# Altium footprint library DIOM5336X265N.PcbLib: 1 footprints
Each footprint in its own frame and in the unit in brackets; x right, y up, seen from the top. Pads: shape width x height; smd on the part's side, far side on the other; paste and mask are expansions set on the pad; w line width, h text height; cw(c..) or ccw(c..) is an arc to the next point about the centre after c.
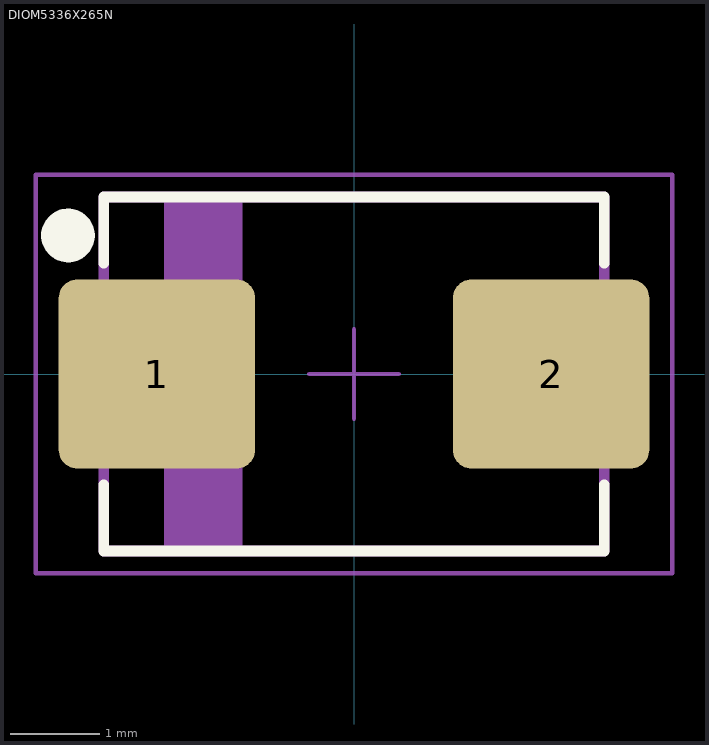
[diagram p0: the footprint, top view; thin cyan lines are the x and y axes]

## DIOM5336X265N [mm]
height 2.65
pads (2):
  rrect20% 2.2x2.12 smd: 1(-2.205,0) 2(2.205,0)
Top Overlay:
  circle w0.3: c-3.2,1.55 r0.15
  lines w0.12: -2.8,-1.24 -2.8,-1.98 2.8,-1.98 2.8,-1.24 ; -2.8,1.24 -2.8,1.98 2.8,1.98 2.8,1.24
Top Assembly:
  rectangle: -2.125,-1.98 -1.25,1.98
  lines w0.001: -2.8,1.975 -2.8,-1.975 2.8,-1.975 2.8,1.975
  lines w0.12: -2.8,-1.98 2.8,-1.98 2.8,1.98 -2.8,1.98 -2.8,-1.98
Top Courtyard:
  lines w0.05: -3.56,-2.23 3.56,-2.23 3.56,2.23 -3.56,2.23 -3.56,-2.23
Top Designator:
  text ".Designator" at -0.5,-0.5 h1
Top Component Center:
  lines w0.05: -0.5,0 0.5,0 ; 0,-0.5 0,0.5
3D body "User Library-DO-214AA_SMB.STEP": height 2.2, standoff -0.05, extent -2.65,-1.85 2.65,1.85